# Altium footprint library SJ-352x-SMT.PcbLib: 1 footprints
Each footprint in its own frame and in the unit in brackets; x right, y up, seen from the top. Pads: shape width x height; smd on the part's side, far side on the other; paste and mask are expansions set on the pad; w line width, h text height; cw(c..) or ccw(c..) is an arc to the next point about the centre after c.
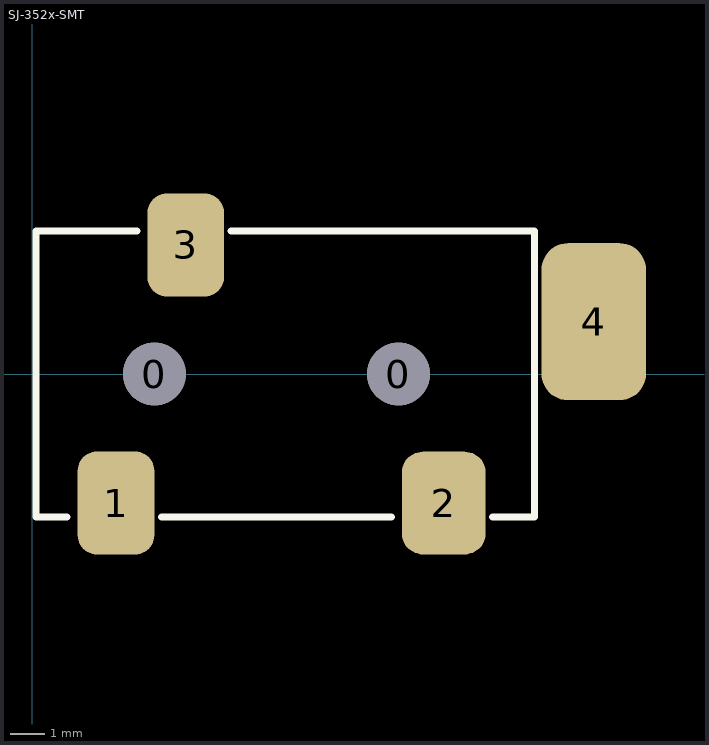
[diagram p0: the footprint, top view; thin cyan lines are the x and y axes]

## SJ-352x-SMT [mm]
pads (6):
  round 1.8 hole 1.8: 0(3.5,0) 0(10.5,0)
  rrect50% 2.2x2.95 smd: 1(2.4,-3.7) 3(4.4,3.7)
  rrect50% 2.4x2.95 smd: 2(11.8,-3.7)
  rrect50% 3x4.5 smd: 4(16.1,1.5)
TopOverlay:
  lines w0.2: 1,-4.1 0.1,-4.1 0.1,4.1 3,4.1 ; 3.7,-4.1 10.3,-4.1 ; 5.7,4.1 14.4,4.1 14.4,-4.1 13.2,-4.1
3D body: height 5, standoff -0.8, extent -2.5,-4.5 14.5,4.5